# EAGLE library part PHOENIX_PTA_3P5_12POS (library Pygmy)
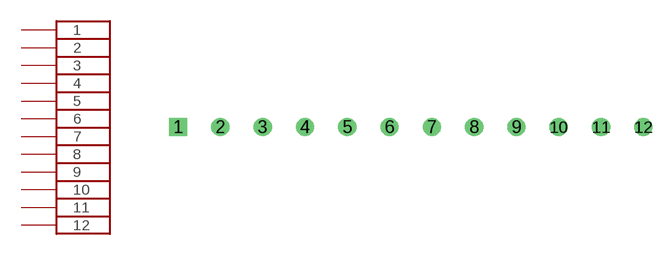
[diagram p25: symbol with the pads of PHOENIX_PTA_3P5_12POS; footprint PHOENIX_PTA_3P5_12POS]

Designator prefix -

## PHOENIX_PTA_3P5_12POS  [PHOENIX_PTA_3P5_12POS]
1  1
2  2
3  3
4  4
5  5
6  6
7  7
8  8
9  9
10  10
11  11
12  12

## Footprint PHOENIX_PTA_3P5_12POS (pad centres in mm)
drill 1 square: 1 0,0
drill 1: 2 3.5,0; 3 7,0; 4 10.5,0; 5 14,0; 6 17.5,0; 7 21,0; 8 24.5,0; 9 28,0; 10 31.5,0; 11 35,0; 12 38.5,0